# EAGLE library part H8/3687F(BEST-TECH) (library H8 micom_MORISHITA)
H8/3687F micom board (BestTechnology) Producted by BestTechnology store infomation: http://www.besttechnology.co.jp/
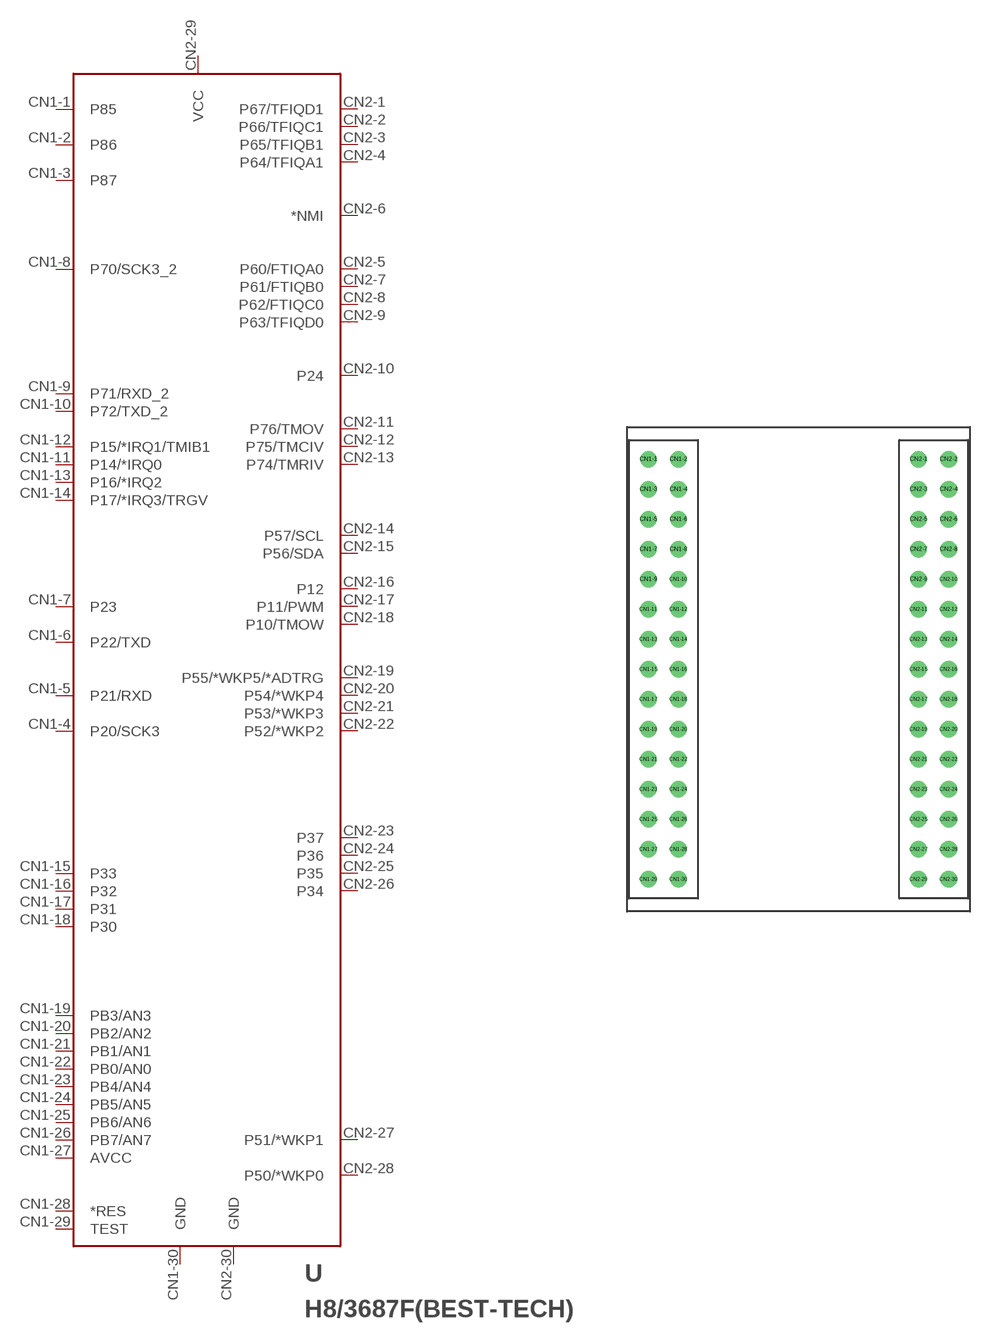
[diagram p0: symbol with the pads of H8/3687F-BOARD; footprint H8/3687F-BOARD]

Designator prefix U

## H8/3687F(BEST-TECH)  [H8/3687F-BOARD]
CN1-1  P85
CN1-2  P86
CN1-3  P87
CN1-4  P20/SCK3
CN1-5  P21/RXD
CN1-6  P22/TXD
CN1-7  P23
CN1-8  P70/SCK3_2
CN1-9  P71/RXD_2
CN1-10  P72/TXD_2
CN1-11  P14/*IRQ0
CN1-12  P15/*IRQ1/TMIB1
CN1-13  P16/*IRQ2
CN1-14  P17/*IRQ3/TRGV
CN1-15  P33
CN1-16  P32
CN1-17  P31
CN1-18  P30
CN1-19  PB3/AN3  in
CN1-20  PB2/AN2  in
CN1-21  PB1/AN1  in
CN1-22  PB0/AN0  in
CN1-23  PB4/AN4  in
CN1-24  PB5/AN5  in
CN1-25  PB6/AN6  in
CN1-26  PB7/AN7  in
CN1-27  AVCC  in
CN1-28  *RES  nc
CN1-29  TEST  nc
CN1-30  GND  pwr
CN2-1  P67/TFIQD1
CN2-2  P66/TFIQC1
CN2-3  P65/TFIQB1
CN2-4  P64/TFIQA1
CN2-5  P60/FTIQA0
CN2-6  *NMI
CN2-7  P61/FTIQB0
CN2-8  P62/FTIQC0
CN2-9  P63/TFIQD0
CN2-10  P24
CN2-11  P76/TMOV
CN2-12  P75/TMCIV
CN2-13  P74/TMRIV
CN2-14  P57/SCL
CN2-15  P56/SDA
CN2-16  P12
CN2-17  P11/PWM
CN2-18  P10/TMOW
CN2-19  P55/*WKP5/*ADTRG
CN2-20  P54/*WKP4
CN2-21  P53/*WKP3
CN2-22  P52/*WKP2
CN2-23  P37
CN2-24  P36
CN2-25  P35
CN2-26  P34
CN2-27  P51/*WKP1
CN2-28  P50/*WKP0
CN2-29  VCC  pwr
CN2-30  GND  pwr

## Footprint H8/3687F-BOARD (pad centres in mm)
H8/3687F micom board (Producted by BestTechnology.Co.)
drill 0.9 round: CN1-1 -12.7,17.78; CN1-2 -10.16,17.78; CN1-3 -12.7,15.24; CN1-4 -10.16,15.24; CN1-5 -12.7,12.7; CN1-6 -10.16,12.7; CN1-7 -12.7,10.16; CN1-8 -10.16,10.16; CN1-9 -12.7,7.62; CN1-10 -10.16,7.62; CN1-11 -12.7,5.08; CN1-12 -10.16,5.08; CN1-13 -12.7,2.54; CN1-14 -10.16,2.54; CN1-15 -12.7,0; CN1-16 -10.16,0; CN1-17 -12.7,-2.54; CN1-18 -10.16,-2.54; CN1-19 -12.7,-5.08; CN1-20 -10.16,-5.08; CN1-21 -12.7,-7.62; CN1-22 -10.16,-7.62; CN1-23 -12.7,-10.16; CN1-24 -10.16,-10.16; CN1-25 -12.7,-12.7; CN1-26 -10.16,-12.7; CN1-27 -12.7,-15.24; CN1-28 -10.16,-15.24; CN1-29 -12.7,-17.78; CN1-30 -10.16,-17.78; CN2-1 10.16,17.78; CN2-2 12.7,17.78; CN2-3 10.16,15.24; CN2-4 12.7,15.24; CN2-5 10.16,12.7; CN2-6 12.7,12.7; CN2-7 10.16,10.16; CN2-8 12.7,10.16; CN2-9 10.16,7.62; CN2-10 12.7,7.62; CN2-11 10.16,5.08; CN2-12 12.7,5.08; CN2-13 10.16,2.54; CN2-14 12.7,2.54; CN2-15 10.16,0; CN2-16 12.7,0; CN2-17 10.16,-2.54; CN2-18 12.7,-2.54; CN2-19 10.16,-5.08; CN2-20 12.7,-5.08; CN2-21 10.16,-7.62; CN2-22 12.7,-7.62; CN2-23 10.16,-10.16; CN2-24 12.7,-10.16; CN2-25 10.16,-12.7; CN2-26 12.7,-12.7; CN2-27 10.16,-15.24; CN2-28 12.7,-15.24; CN2-29 10.16,-17.78; CN2-30 12.7,-17.78